# EAGLE library part MOSFET-PCHANNEL-DUAL (library sandwich)
Fairchild FDS4935A 30V 7A
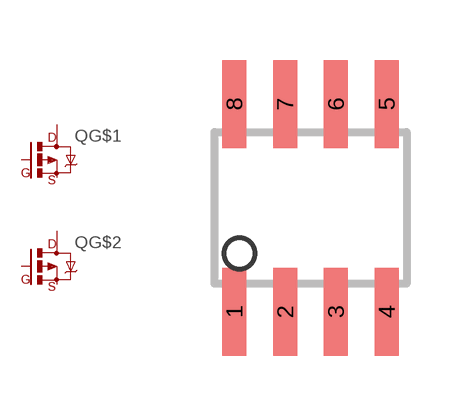
[diagram p0: symbol with the pads of SO-08; footprint SO-08]

Designator prefix Q; gates G$1=MOSFET-PCHANNEL-DBL-DRAIN G$2=MOSFET-PCHANNEL-DBL-DRAIN

## MOSFET-PCHANNEL-DUAL  [SO-08]
1  G$1:S  pas
2  G$1:G  pas
3  G$2:S  pas
4  G$2:G  pas
5  G$2:D  pas
6  G$2:D  pas
7  G$1:D  pas
8  G$1:D  pas

## Footprint SO-08 (pad centres in mm)
Small Outline Narrow Plastic Gull Wing 150-mil body, package type SN
smd 0.6 x 2.2: 1 -1.905,-2.6; 2 -0.635,-2.6; 3 0.635,-2.6; 4 1.905,-2.6; 5 1.905,2.6; 6 0.635,2.6; 7 -0.635,2.6; 8 -1.905,2.6